# Altium schematic symbol library RC0603JR-07200.SchLib: 1 symbol
Pins are listed as number, name and electrical type; pins without a type are passive.

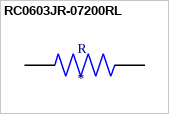
[diagram p0: symbol RC0603JR-07200RL]

## RC0603JR-07200RL
designator R
200 Ohms Â±5% 0.1W, 1/10W Chip Resistor 0603 _1608 Metric_ Moisture Resistant Thick Film; MF: Yageo; MP: RC0603JR-07200RL; Digi-Key_Purchase_URL: https://www.digikey.ru/product-detail/en/yageo/RC0603JR-07200RL/311-200GRCT-ND/729684?utm_source=snapeda&utm_medium=aggregator&utm_campaign=symbol; Value: *; Digi-Key_Part_Number: 311-200GRCT-ND; Package: 1608 Yageo; SnapEDA_Link: https://www.snapeda.com/parts/RC0603JR-07200RL/Yageo/view-part/106080/?ref=snap
footprint RESC1608X55N
pins: 1, 2